# Altium integrated library Renesas Logic.IntLib: 1013 symbols (part 22 of 27)
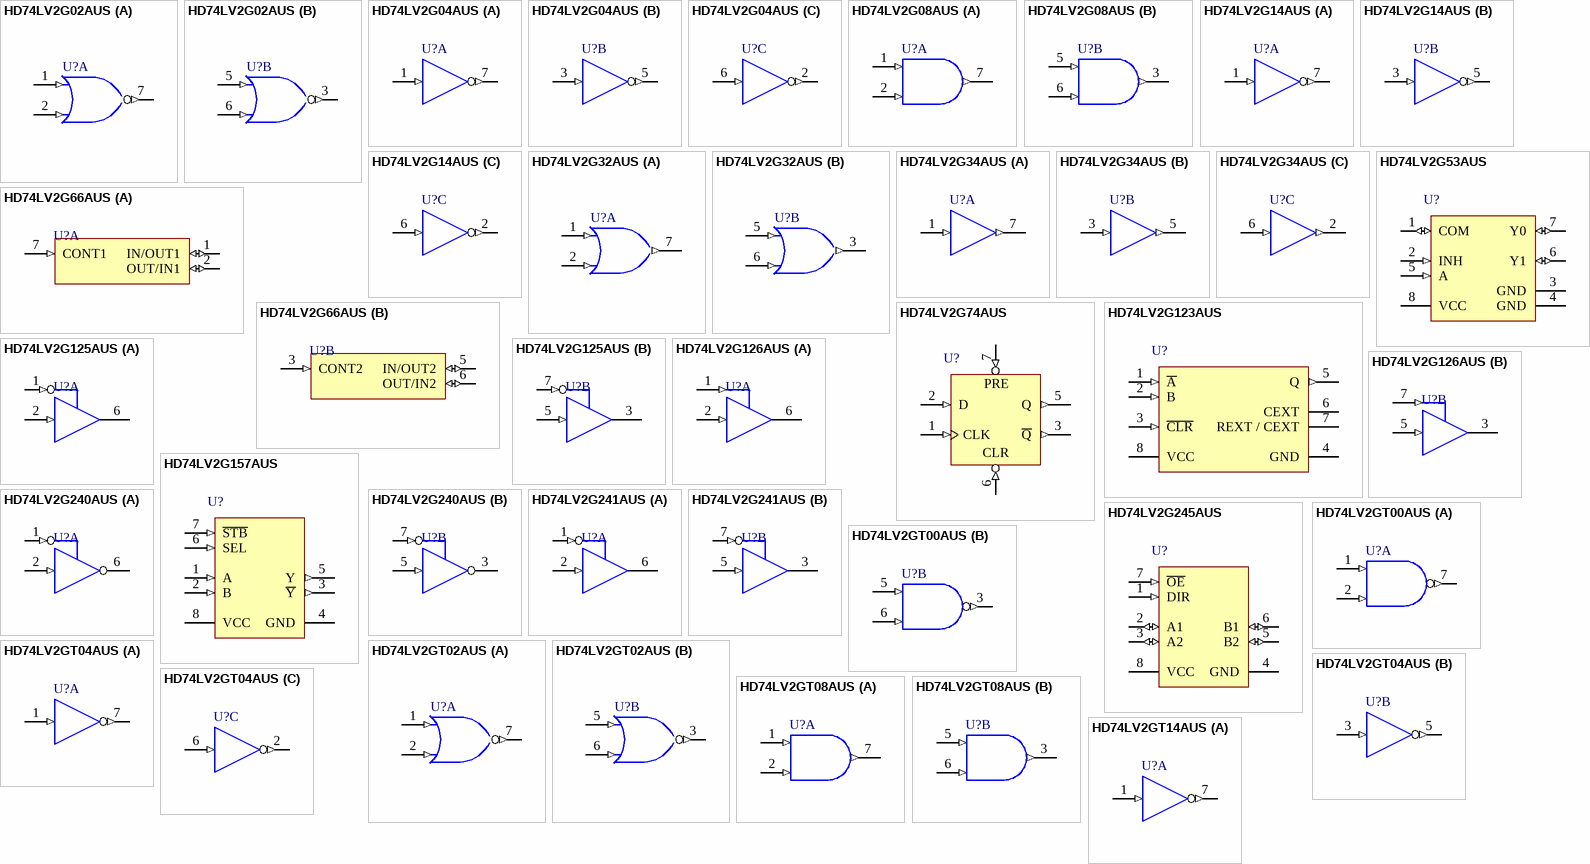
[diagram p74: symbols HD74LV2G02AUS to HD74LV2GT14AUS]

## HD74LV2G34AUS
designator U?
Triple Non-inverters; Published: 10-Feb-2010; DatasheetVersion: Rev.4.00, Sep-2003; PackageVersion: Sep-2005; PackageReference: PVSP0008KA-A; Publisher: Altium Limited; PackageDescription: 8-Pin Plastic Thin Shrink Small Outline Package 0.5 mm Pitch; Code_JEITA: P-VSSOP8-2.3x2-0.50; ComponentLink1Description: Manufacturer Link; ComponentLink1URL: http://sg.renesas.com/fmwk.jsp?cnt=unilogic_lva_lvta_root.jsp&fp=/products/standard_ic/general_purpose_logic/uni_logic/unilogic_lva_lvta/; ComponentLink2Description: Datasheet; ComponentLink2URL: http://documentation.renesas.com/eng/products/logic/rej03d0093_hd74lv2g34a.pdf; ComponentLink3Description: Packaging Specification; ComponentLink3URL: http://sg.renesas.com/media/products/common_info/package/pdf/ic/code/pvsp0008ka_a.pdf
footprint PVSP0008KA-A_N (TSSOP, 8-Leads, Body 2x2.3mm, Pitch 0.5mm, IPC Medium Density)
footprint PVSP0008KA-A_L (TSSOP, 8-Leads, Body 2x2.3mm, Pitch 0.5mm, IPC High Density)
footprint PVSP0008KA-A_M (TSSOP, 8-Leads, Body 2x2.3mm, Pitch 0.5mm, IPC Low Density)
pins on every part: 4 GND (power) hidden, 8 VCC (power) hidden
part A pins: 1 1A (in), 7 1Y (out)
part B pins: 3 2A (in), 5 2Y (out)
part C pins: 2 3Y (out), 6 3A (in)

## HD74LV2G53AUS
designator U?
2-Channel Analog Multiplexer / Demultiplexer; Published: 10-Feb-2010; DatasheetVersion: Rev.4.00, Sep-2003; PackageVersion: Sep-2005; PackageReference: PVSP0008KA-A; Publisher: Altium Limited; PackageDescription: 8-Pin Plastic Thin Shrink Small Outline Package 0.5 mm Pitch; Code_JEITA: P-VSSOP8-2.3x2-0.50; ComponentLink1Description: Manufacturer Link; ComponentLink1URL: http://sg.renesas.com/fmwk.jsp?cnt=unilogic_lva_lvta_root.jsp&fp=/products/standard_ic/general_purpose_logic/uni_logic/unilogic_lva_lvta/; ComponentLink2Description: Datasheet; ComponentLink2URL: http://documentation.renesas.com/eng/products/logic/rej03d0094_hd74lv2g53a.pdf; ComponentLink3Description: Packaging Specification; ComponentLink3URL: http://sg.renesas.com/media/products/common_info/package/pdf/ic/code/pvsp0008ka_a.pdf
footprint PVSP0008KA-A_N (TSSOP, 8-Leads, Body 2x2.3mm, Pitch 0.5mm, IPC Medium Density)
footprint PVSP0008KA-A_L (TSSOP, 8-Leads, Body 2x2.3mm, Pitch 0.5mm, IPC High Density)
footprint PVSP0008KA-A_M (TSSOP, 8-Leads, Body 2x2.3mm, Pitch 0.5mm, IPC Low Density)
pins: 1 COM (io), 2 INH (in), 3 GND (power), 4 GND (power), 5 A (in), 6 Y1 (io), 7 Y0 (io), 8 VCC (power)

## HD74LV2G66AUS
designator U?
2-Channel Analog Switch; Published: 10-Feb-2010; DatasheetVersion: Rev.4.00, Sep-2003; PackageVersion: Sep-2005; PackageReference: PVSP0008KA-A; Publisher: Altium Limited; PackageDescription: 8-Pin Plastic Thin Shrink Small Outline Package 0.5 mm Pitch; Code_JEITA: P-VSSOP8-2.3x2-0.50; ComponentLink1Description: Manufacturer Link; ComponentLink1URL: http://sg.renesas.com/fmwk.jsp?cnt=unilogic_lva_lvta_root.jsp&fp=/products/standard_ic/general_purpose_logic/uni_logic/unilogic_lva_lvta/; ComponentLink2Description: Datasheet; ComponentLink2URL: http://documentation.renesas.com/eng/products/logic/rej03d0095_hd74lv2g66a.pdf; ComponentLink3Description: Packaging Specification; ComponentLink3URL: http://sg.renesas.com/media/products/common_info/package/pdf/ic/code/pvsp0008ka_a.pdf
footprint PVSP0008KA-A_N (TSSOP, 8-Leads, Body 2x2.3mm, Pitch 0.5mm, IPC Medium Density)
footprint PVSP0008KA-A_L (TSSOP, 8-Leads, Body 2x2.3mm, Pitch 0.5mm, IPC High Density)
footprint PVSP0008KA-A_M (TSSOP, 8-Leads, Body 2x2.3mm, Pitch 0.5mm, IPC Low Density)
pins on every part: 4 GND (power) hidden, 8 VCC (power) hidden
part A pins: 1 IN/OUT1 (io), 2 OUT/IN1 (io), 7 CONT1 (in)
part B pins: 3 CONT2 (in), 5 IN/OUT2 (io), 6 OUT/IN2 (io)

## HD74LV2G74AUS
designator U?
Single D-ype Flip-Flops with Preset and Clear; Published: 10-Feb-2010; DatasheetVersion: Rev.5.00, Apr-2006; PackageVersion: Sep-2005; PackageReference: PVSP0008KA-A; Publisher: Altium Limited; PackageDescription: 8-Pin Plastic Thin Shrink Small Outline Package 0.5 mm Pitch; Code_JEITA: P-VSSOP8-2.3x2-0.50; ComponentLink1Description: Manufacturer Link; ComponentLink1URL: http://sg.renesas.com/fmwk.jsp?cnt=unilogic_lva_lvta_root.jsp&fp=/products/standard_ic/general_purpose_logic/uni_logic/unilogic_lva_lvta/; ComponentLink2Description: Datasheet; ComponentLink2URL: http://documentation.renesas.com/eng/products/logic/rej03d0097_hd74lv2g74ads.pdf; ComponentLink3Description: Packaging Specification; ComponentLink3URL: http://sg.renesas.com/media/products/common_info/package/pdf/ic/code/pvsp0008ka_a.pdf
footprint PVSP0008KA-A_N (TSSOP, 8-Leads, Body 2x2.3mm, Pitch 0.5mm, IPC Medium Density)
footprint PVSP0008KA-A_L (TSSOP, 8-Leads, Body 2x2.3mm, Pitch 0.5mm, IPC High Density)
footprint PVSP0008KA-A_M (TSSOP, 8-Leads, Body 2x2.3mm, Pitch 0.5mm, IPC Low Density)
pins: 1 CLK (in), 2 D (in), 3 ~{Q} (out), 4 GND (power) hidden, 5 Q (out), 6 ~{CLR} (in), 7 ~{PRE} (in), 8 VCC (power) hidden
text: PRE; CLR

## HD74LV2G123AUS
designator U?
Retriggerable Monostable Multivibrator; Published: 10-Feb-2010; DatasheetVersion: Rev.3.00, Sep-2003; PackageVersion: Sep-2005; PackageReference: PVSP0008KA-A; Publisher: Altium Limited; PackageDescription: 8-Pin Plastic Thin Shrink Small Outline Package 0.5 mm Pitch; Code_JEITA: P-VSSOP8-2.3x2-0.50; ComponentLink1Description: Manufacturer Link; ComponentLink1URL: http://sg.renesas.com/fmwk.jsp?cnt=unilogic_lva_lvta_root.jsp&fp=/products/standard_ic/general_purpose_logic/uni_logic/unilogic_lva_lvta/; ComponentLink2Description: Datasheet; ComponentLink2URL: http://documentation.renesas.com/eng/products/logic/rej03d0098_hd74lv2g123a.pdf; ComponentLink3Description: Packaging Specification; ComponentLink3URL: http://sg.renesas.com/media/products/common_info/package/pdf/ic/code/pvsp0008ka_a.pdf
footprint PVSP0008KA-A_N (TSSOP, 8-Leads, Body 2x2.3mm, Pitch 0.5mm, IPC Medium Density)
footprint PVSP0008KA-A_L (TSSOP, 8-Leads, Body 2x2.3mm, Pitch 0.5mm, IPC High Density)
footprint PVSP0008KA-A_M (TSSOP, 8-Leads, Body 2x2.3mm, Pitch 0.5mm, IPC Low Density)
pins: 1 ~{A} (in), 2 B (in), 3 ~{CLR} (in), 4 GND (power), 5 Q (out), 6 CEXT, 7 REXT / CEXT, 8 VCC (power)

## HD74LV2G125AUS
designator U?
Dual Bus Buffer with 3-State Output; Published: 10-Feb-2010; DatasheetVersion: Rev.5.00, Sep-2003; PackageVersion: Sep-2005; PackageReference: PVSP0008KA-A; Publisher: Altium Limited; PackageDescription: 8-Pin Plastic Thin Shrink Small Outline Package 0.5 mm Pitch; Code_JEITA: P-VSSOP8-2.3x2-0.50; ComponentLink1Description: Manufacturer Link; ComponentLink1URL: http://sg.renesas.com/fmwk.jsp?cnt=unilogic_lva_lvta_root.jsp&fp=/products/standard_ic/general_purpose_logic/uni_logic/unilogic_lva_lvta/; ComponentLink2Description: Datasheet; ComponentLink2URL: http://documentation.renesas.com/eng/products/logic/rej03d0099_hd74lv2g125a.pdf; ComponentLink3Description: Packaging Specification; ComponentLink3URL: http://sg.renesas.com/media/products/common_info/package/pdf/ic/code/pvsp0008ka_a.pdf
footprint PVSP0008KA-A_N (TSSOP, 8-Leads, Body 2x2.3mm, Pitch 0.5mm, IPC Medium Density)
footprint PVSP0008KA-A_L (TSSOP, 8-Leads, Body 2x2.3mm, Pitch 0.5mm, IPC High Density)
footprint PVSP0008KA-A_M (TSSOP, 8-Leads, Body 2x2.3mm, Pitch 0.5mm, IPC Low Density)
pins on every part: 4 GND (power) hidden, 8 VCC (power) hidden
part A pins: 1 ~{OE}1 (in), 2 A1 (in), 6 Y1 (hiz)
part B pins: 3 Y2 (hiz), 5 A2 (in), 7 ~{OE}2 (in)

## HD74LV2G126AUS
designator U?
Dual Bus Buffer with 3-State Output; Published: 10-Feb-2010; DatasheetVersion: Rev.5.00, Sep-2003; PackageVersion: Sep-2005; PackageReference: PVSP0008KA-A; Publisher: Altium Limited; PackageDescription: 8-Pin Plastic Thin Shrink Small Outline Package 0.5 mm Pitch; Code_JEITA: P-VSSOP8-2.3x2-0.50; ComponentLink1Description: Manufacturer Link; ComponentLink1URL: http://sg.renesas.com/fmwk.jsp?cnt=unilogic_lva_lvta_root.jsp&fp=/products/standard_ic/general_purpose_logic/uni_logic/unilogic_lva_lvta/; ComponentLink2Description: Datasheet; ComponentLink2URL: http://documentation.renesas.com/eng/products/logic/rej03d0100_hd74lv2g126a.pdf; ComponentLink3Description: Packaging Specification; ComponentLink3URL: http://sg.renesas.com/media/products/common_info/package/pdf/ic/code/pvsp0008ka_a.pdf
footprint PVSP0008KA-A_N (TSSOP, 8-Leads, Body 2x2.3mm, Pitch 0.5mm, IPC Medium Density)
footprint PVSP0008KA-A_L (TSSOP, 8-Leads, Body 2x2.3mm, Pitch 0.5mm, IPC High Density)
footprint PVSP0008KA-A_M (TSSOP, 8-Leads, Body 2x2.3mm, Pitch 0.5mm, IPC Low Density)
pins on every part: 4 GND (power) hidden, 8 VCC (power) hidden
part A pins: 1 OE1 (in), 2 A1 (in), 6 Y1 (hiz)
part B pins: 3 Y2 (hiz), 5 A2 (in), 7 OE2 (in)

## HD74LV2G157AUS
designator U?
2-Channel Multiplexer; Published: 10-Feb-2010; DatasheetVersion: Rev.4.00, Sep-2003; PackageVersion: Sep-2005; PackageReference: PVSP0008KA-A; Publisher: Altium Limited; PackageDescription: 8-Pin Plastic Thin Shrink Small Outline Package 0.5 mm Pitch; Code_JEITA: P-VSSOP8-2.3x2-0.50; ComponentLink1Description: Manufacturer Link; ComponentLink1URL: http://sg.renesas.com/fmwk.jsp?cnt=unilogic_lva_lvta_root.jsp&fp=/products/standard_ic/general_purpose_logic/uni_logic/unilogic_lva_lvta/; ComponentLink2Description: Datasheet; ComponentLink2URL: http://documentation.renesas.com/eng/products/logic/rej03d0101_hd74lv2g157a.pdf; ComponentLink3Description: Packaging Specification; ComponentLink3URL: http://sg.renesas.com/media/products/common_info/package/pdf/ic/code/pvsp0008ka_a.pdf
footprint PVSP0008KA-A_N (TSSOP, 8-Leads, Body 2x2.3mm, Pitch 0.5mm, IPC Medium Density)
footprint PVSP0008KA-A_L (TSSOP, 8-Leads, Body 2x2.3mm, Pitch 0.5mm, IPC High Density)
footprint PVSP0008KA-A_M (TSSOP, 8-Leads, Body 2x2.3mm, Pitch 0.5mm, IPC Low Density)
pins: 1 A (in), 2 B (in), 3 ~{Y} (out), 4 GND (power), 5 Y (out), 6 SEL (in), 7 ~{STB} (in), 8 VCC (power)

## HD74LV2G240AUS
designator U?
Dual Bus Buffer Inverted with 3-State Outputs; Published: 10-Feb-2010; DatasheetVersion: Rev.4.00, Sep-2003; PackageVersion: Sep-2005; PackageReference: PVSP0008KA-A; Publisher: Altium Limited; PackageDescription: 8-Pin Plastic Thin Shrink Small Outline Package 0.5 mm Pitch; Code_JEITA: P-VSSOP8-2.3x2-0.50; ComponentLink1Description: Manufacturer Link; ComponentLink1URL: http://sg.renesas.com/fmwk.jsp?cnt=unilogic_lva_lvta_root.jsp&fp=/products/standard_ic/general_purpose_logic/uni_logic/unilogic_lva_lvta/; ComponentLink2Description: Datasheet; ComponentLink2URL: http://documentation.renesas.com/eng/products/logic/rej03d0102_hd74lv2g240a.pdf; ComponentLink3Description: Packaging Specification; ComponentLink3URL: http://sg.renesas.com/media/products/common_info/package/pdf/ic/code/pvsp0008ka_a.pdf
footprint PVSP0008KA-A_N (TSSOP, 8-Leads, Body 2x2.3mm, Pitch 0.5mm, IPC Medium Density)
footprint PVSP0008KA-A_L (TSSOP, 8-Leads, Body 2x2.3mm, Pitch 0.5mm, IPC High Density)
footprint PVSP0008KA-A_M (TSSOP, 8-Leads, Body 2x2.3mm, Pitch 0.5mm, IPC Low Density)
pins on every part: 4 GND (power) hidden, 8 VCC (power) hidden
part A pins: 1 ~{OE}1 (in), 2 A1 (in), 6 ~{Y}1 (hiz)
part B pins: 3 ~{Y}2 (hiz), 5 A2 (in), 7 ~{OE}2 (in)

## HD74LV2G241AUS
designator U?
Dual Bus Buffer Non-Inverted with 3-State Outputs; Published: 10-Feb-2010; DatasheetVersion: Rev.5.00, Sep-2003; PackageVersion: Sep-2005; PackageReference: PVSP0008KA-A; Publisher: Altium Limited; PackageDescription: 8-Pin Plastic Thin Shrink Small Outline Package 0.5 mm Pitch; Code_JEITA: P-VSSOP8-2.3x2-0.50; ComponentLink1Description: Manufacturer Link; ComponentLink1URL: http://sg.renesas.com/fmwk.jsp?cnt=unilogic_lva_lvta_root.jsp&fp=/products/standard_ic/general_purpose_logic/uni_logic/unilogic_lva_lvta/; ComponentLink2Description: Datasheet; ComponentLink2URL: http://documentation.renesas.com/eng/products/logic/rej03d0103_hd74lv2g241a.pdf; ComponentLink3Description: Packaging Specification; ComponentLink3URL: http://sg.renesas.com/media/products/common_info/package/pdf/ic/code/pvsp0008ka_a.pdf
footprint PVSP0008KA-A_N (TSSOP, 8-Leads, Body 2x2.3mm, Pitch 0.5mm, IPC Medium Density)
footprint PVSP0008KA-A_L (TSSOP, 8-Leads, Body 2x2.3mm, Pitch 0.5mm, IPC High Density)
footprint PVSP0008KA-A_M (TSSOP, 8-Leads, Body 2x2.3mm, Pitch 0.5mm, IPC Low Density)
pins on every part: 4 GND (power) hidden, 8 VCC (power) hidden
part A pins: 1 ~{OE}1 (in), 2 A1 (in), 6 Y1 (hiz)
part B pins: 3 Y2 (hiz), 5 A2 (in), 7 ~{OE}2 (in)

## HD74LV2G245AUS
designator U?
Dual Bus Transceivers with 3-State Outputs; Published: 10-Feb-2010; DatasheetVersion: Rev.4.00, Oct-2003; PackageVersion: Sep-2005; PackageReference: PVSP0008KA-A; Publisher: Altium Limited; PackageDescription: 8-Pin Plastic Thin Shrink Small Outline Package 0.5 mm Pitch; Code_JEITA: P-VSSOP8-2.3x2-0.50; ComponentLink1Description: Manufacturer Link; ComponentLink1URL: http://sg.renesas.com/fmwk.jsp?cnt=unilogic_lva_lvta_root.jsp&fp=/products/standard_ic/general_purpose_logic/uni_logic/unilogic_lva_lvta/; ComponentLink2Description: Datasheet; ComponentLink2URL: http://documentation.renesas.com/eng/products/logic/rej03d0104_hd74lv2g245a.pdf; ComponentLink3Description: Packaging Specification; ComponentLink3URL: http://sg.renesas.com/media/products/common_info/package/pdf/ic/code/pvsp0008ka_a.pdf
footprint PVSP0008KA-A_N (TSSOP, 8-Leads, Body 2x2.3mm, Pitch 0.5mm, IPC Medium Density)
footprint PVSP0008KA-A_L (TSSOP, 8-Leads, Body 2x2.3mm, Pitch 0.5mm, IPC High Density)
footprint PVSP0008KA-A_M (TSSOP, 8-Leads, Body 2x2.3mm, Pitch 0.5mm, IPC Low Density)
pins: 1 DIR (in), 2 A1 (io), 3 A2 (io), 4 GND (power), 5 B2 (io), 6 B1 (io), 7 ~{OE} (in), 8 VCC (power)

## HD74LV2GT00AUS
designator U?
Dual 2-Input NAND Gates with CMOS Logic Level Shifter; Published: 10-Feb-2010; DatasheetVersion: Rev.2.00, Oct-2003; PackageVersion: Sep-2005; PackageReference: PVSP0008KA-A; Publisher: Altium Limited; PackageDescription: 8-Pin Plastic Thin Shrink Small Outline Package 0.5 mm Pitch; Code_JEITA: P-VSSOP8-2.3x2-0.50; ComponentLink1Description: Manufacturer Link; ComponentLink1URL: http://sg.renesas.com/fmwk.jsp?cnt=unilogic_lva_lvta_root.jsp&fp=/products/standard_ic/general_purpose_logic/uni_logic/unilogic_lva_lvta/; ComponentLink2Description: Datasheet; ComponentLink2URL: http://documentation.renesas.com/eng/products/logic/rej03d0137_hd74lv2gt00a.pdf; ComponentLink3Description: Packaging Specification; ComponentLink3URL: http://sg.renesas.com/media/products/common_info/package/pdf/ic/code/pvsp0008ka_a.pdf
footprint PVSP0008KA-A_N (TSSOP, 8-Leads, Body 2x2.3mm, Pitch 0.5mm, IPC Medium Density)
footprint PVSP0008KA-A_L (TSSOP, 8-Leads, Body 2x2.3mm, Pitch 0.5mm, IPC High Density)
footprint PVSP0008KA-A_M (TSSOP, 8-Leads, Body 2x2.3mm, Pitch 0.5mm, IPC Low Density)
pins on every part: 4 GND (power) hidden, 8 VCC (power) hidden
part A pins: 1 1A (in), 2 1B (in), 7 1Y (out)
part B pins: 3 2Y (out), 5 2A (in), 6 2B (in)

## HD74LV2GT02AUS
designator U?
Dual 2-Input NOR Gates with CMOS Logic Level Shifter; Published: 10-Feb-2010; DatasheetVersion: Rev.2.00, Oct-2003; PackageVersion: Sep-2005; PackageReference: PVSP0008KA-A; Publisher: Altium Limited; PackageDescription: 8-Pin Plastic Thin Shrink Small Outline Package 0.5 mm Pitch; Code_JEITA: P-VSSOP8-2.3x2-0.50; ComponentLink1Description: Manufacturer Link; ComponentLink1URL: http://sg.renesas.com/fmwk.jsp?cnt=unilogic_lva_lvta_root.jsp&fp=/products/standard_ic/general_purpose_logic/uni_logic/unilogic_lva_lvta/; ComponentLink2Description: Datasheet; ComponentLink2URL: http://documentation.renesas.com/eng/products/logic/rej03d0138_hd74lv2gt02a.pdf; ComponentLink3Description: Packaging Specification; ComponentLink3URL: http://sg.renesas.com/media/products/common_info/package/pdf/ic/code/pvsp0008ka_a.pdf
footprint PVSP0008KA-A_N (TSSOP, 8-Leads, Body 2x2.3mm, Pitch 0.5mm, IPC Medium Density)
footprint PVSP0008KA-A_L (TSSOP, 8-Leads, Body 2x2.3mm, Pitch 0.5mm, IPC High Density)
footprint PVSP0008KA-A_M (TSSOP, 8-Leads, Body 2x2.3mm, Pitch 0.5mm, IPC Low Density)
pins on every part: 4 GND (power) hidden, 8 VCC (power) hidden
part A pins: 1 1A (in), 2 1B (in), 7 1Y (out)
part B pins: 3 2Y (out), 5 2A (in), 6 2B (in)

## HD74LV2GT04AUS
designator U?
Triple Inverters with CMOS Logic Level Shifter; Published: 10-Feb-2010; DatasheetVersion: Rev.2.00, Oct-2003; PackageVersion: Sep-2005; PackageReference: PVSP0008KA-A; Publisher: Altium Limited; PackageDescription: 8-Pin Plastic Thin Shrink Small Outline Package 0.5 mm Pitch; Code_JEITA: P-VSSOP8-2.3x2-0.50; ComponentLink1Description: Manufacturer Link; ComponentLink1URL: http://sg.renesas.com/fmwk.jsp?cnt=unilogic_lva_lvta_root.jsp&fp=/products/standard_ic/general_purpose_logic/uni_logic/unilogic_lva_lvta/; ComponentLink2Description: Datasheet; ComponentLink2URL: http://documentation.renesas.com/eng/products/logic/rej03d0139_hd74lv2gt04a.pdf; ComponentLink3Description: Packaging Specification; ComponentLink3URL: http://sg.renesas.com/media/products/common_info/package/pdf/ic/code/pvsp0008ka_a.pdf
footprint PVSP0008KA-A_N (TSSOP, 8-Leads, Body 2x2.3mm, Pitch 0.5mm, IPC Medium Density)
footprint PVSP0008KA-A_L (TSSOP, 8-Leads, Body 2x2.3mm, Pitch 0.5mm, IPC High Density)
footprint PVSP0008KA-A_M (TSSOP, 8-Leads, Body 2x2.3mm, Pitch 0.5mm, IPC Low Density)
pins on every part: 4 GND (power) hidden, 8 VCC (power) hidden
part A pins: 1 1A (in), 7 1~{Y} (out)
part B pins: 3 2A (in), 5 2~{Y} (out)
part C pins: 2 3~{Y} (out), 6 3A (in)

## HD74LV2GT08AUS
designator U?
Dual 2-Input AND Gates with CMOS Logic Level Shifter; Published: 10-Feb-2010; DatasheetVersion: Rev.2.00, Oct-2003; PackageVersion: Sep-2005; PackageReference: PVSP0008KA-A; Publisher: Altium Limited; PackageDescription: 8-Pin Plastic Thin Shrink Small Outline Package 0.5 mm Pitch; Code_JEITA: P-VSSOP8-2.3x2-0.50; ComponentLink1Description: Manufacturer Link; ComponentLink1URL: http://sg.renesas.com/fmwk.jsp?cnt=unilogic_lva_lvta_root.jsp&fp=/products/standard_ic/general_purpose_logic/uni_logic/unilogic_lva_lvta/; ComponentLink2Description: Datasheet; ComponentLink2URL: http://documentation.renesas.com/eng/products/logic/rej03d0140_hd74lv2gt08a.pdf; ComponentLink3Description: Packaging Specification; ComponentLink3URL: http://sg.renesas.com/media/products/common_info/package/pdf/ic/code/pvsp0008ka_a.pdf
footprint PVSP0008KA-A_N (TSSOP, 8-Leads, Body 2x2.3mm, Pitch 0.5mm, IPC Medium Density)
footprint PVSP0008KA-A_L (TSSOP, 8-Leads, Body 2x2.3mm, Pitch 0.5mm, IPC High Density)
footprint PVSP0008KA-A_M (TSSOP, 8-Leads, Body 2x2.3mm, Pitch 0.5mm, IPC Low Density)
pins on every part: 4 GND (power) hidden, 8 VCC (power) hidden
part A pins: 1 1A (in), 2 1B (in), 7 1Y (out)
part B pins: 3 2Y (out), 5 2A (in), 6 2B (in)

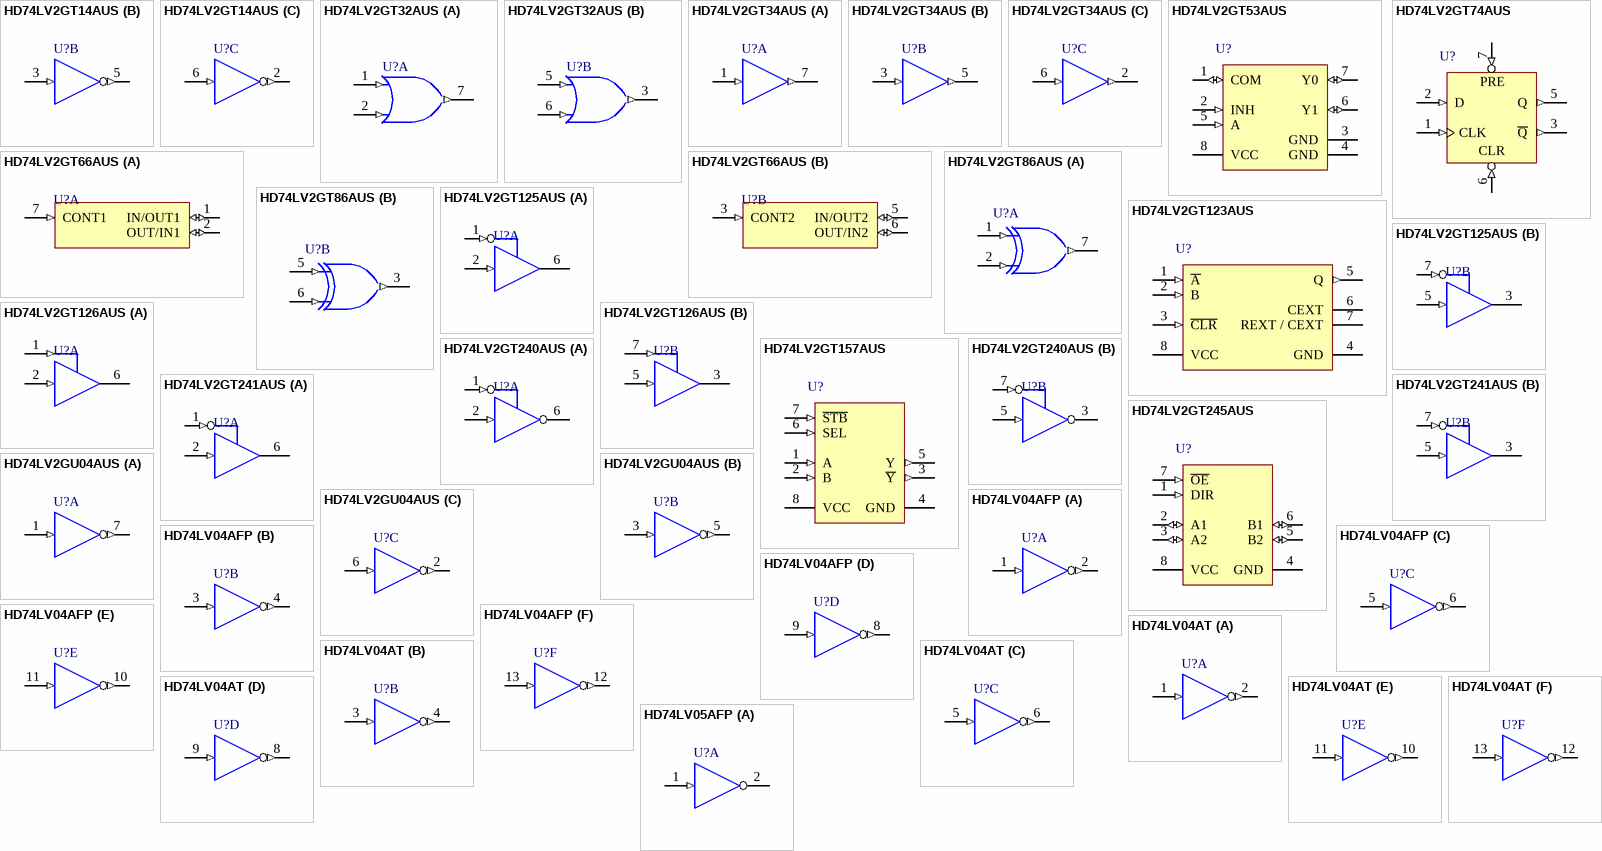
[diagram p41: symbols HD74LV2GT14AUS to HD74LV05AFP]

## HD74LV2GT14AUS
designator U?
Triple Inverters with Schmitt Trigger Inputs and CMOS Logic Level Shifter; Published: 10-Feb-2010; DatasheetVersion: Rev.2.00, Oct-2003; PackageVersion: Sep-2005; PackageReference: PVSP0008KA-A; Publisher: Altium Limited; PackageDescription: 8-Pin Plastic Thin Shrink Small Outline Package 0.5 mm Pitch; Code_JEITA: P-VSSOP8-2.3x2-0.50; ComponentLink1Description: Manufacturer Link; ComponentLink1URL: http://sg.renesas.com/fmwk.jsp?cnt=unilogic_lva_lvta_root.jsp&fp=/products/standard_ic/general_purpose_logic/uni_logic/unilogic_lva_lvta/; ComponentLink2Description: Datasheet; ComponentLink2URL: http://documentation.renesas.com/eng/products/logic/rej03d0141_hd74lv2gt14a.pdf; ComponentLink3Description: Packaging Specification; ComponentLink3URL: http://sg.renesas.com/media/products/common_info/package/pdf/ic/code/pvsp0008ka_a.pdf
footprint PVSP0008KA-A_N (TSSOP, 8-Leads, Body 2x2.3mm, Pitch 0.5mm, IPC Medium Density)
footprint PVSP0008KA-A_L (TSSOP, 8-Leads, Body 2x2.3mm, Pitch 0.5mm, IPC High Density)
footprint PVSP0008KA-A_M (TSSOP, 8-Leads, Body 2x2.3mm, Pitch 0.5mm, IPC Low Density)
pins on every part: 4 GND (power) hidden, 8 VCC (power) hidden
part A pins: 1 1A (in), 7 1~{Y} (out)
part B pins: 3 2A (in), 5 2~{Y} (out)
part C pins: 2 3~{Y} (out), 6 3A (in)

## HD74LV2GT32AUS
designator U?
Dual 2-Input OR Gates with CMOS Logic Level Shifter; Published: 10-Feb-2010; DatasheetVersion: Rev.2.00, Oct-2003; PackageVersion: Sep-2005; PackageReference: PVSP0008KA-A; Publisher: Altium Limited; PackageDescription: 8-Pin Plastic Thin Shrink Small Outline Package 0.5 mm Pitch; Code_JEITA: P-VSSOP8-2.3x2-0.50; ComponentLink1Description: Manufacturer Link; ComponentLink1URL: http://sg.renesas.com/fmwk.jsp?cnt=unilogic_lva_lvta_root.jsp&fp=/products/standard_ic/general_purpose_logic/uni_logic/unilogic_lva_lvta/; ComponentLink2Description: Datasheet; ComponentLink2URL: http://documentation.renesas.com/eng/products/logic/rej03d0142_hd74lv2gt32a.pdf; ComponentLink3Description: Packaging Specification; ComponentLink3URL: http://sg.renesas.com/media/products/common_info/package/pdf/ic/code/pvsp0008ka_a.pdf
footprint PVSP0008KA-A_N (TSSOP, 8-Leads, Body 2x2.3mm, Pitch 0.5mm, IPC Medium Density)
footprint PVSP0008KA-A_L (TSSOP, 8-Leads, Body 2x2.3mm, Pitch 0.5mm, IPC High Density)
footprint PVSP0008KA-A_M (TSSOP, 8-Leads, Body 2x2.3mm, Pitch 0.5mm, IPC Low Density)
pins on every part: 4 GND (power) hidden, 8 VCC (power) hidden
part A pins: 1 1A (in), 2 1B (in), 7 1Y (out)
part B pins: 3 2Y (out), 5 2A (in), 6 2B (in)

## HD74LV2GT34AUS
designator U?
Triple Non-inverters with CMOS Logic Level Shifter; Published: 10-Feb-2010; DatasheetVersion: Rev.2.00, Oct-2003; PackageVersion: Sep-2005; PackageReference: PVSP0008KA-A; Publisher: Altium Limited; PackageDescription: 8-Pin Plastic Thin Shrink Small Outline Package 0.5 mm Pitch; Code_JEITA: P-VSSOP8-2.3x2-0.50; ComponentLink1Description: Manufacturer Link; ComponentLink1URL: http://sg.renesas.com/fmwk.jsp?cnt=unilogic_lva_lvta_root.jsp&fp=/products/standard_ic/general_purpose_logic/uni_logic/unilogic_lva_lvta/; ComponentLink2Description: Datasheet; ComponentLink2URL: http://documentation.renesas.com/eng/products/logic/rej03d0143_hd74lv2gt34a.pdf; ComponentLink3Description: Packaging Specification; ComponentLink3URL: http://sg.renesas.com/media/products/common_info/package/pdf/ic/code/pvsp0008ka_a.pdf
footprint PVSP0008KA-A_N (TSSOP, 8-Leads, Body 2x2.3mm, Pitch 0.5mm, IPC Medium Density)
footprint PVSP0008KA-A_L (TSSOP, 8-Leads, Body 2x2.3mm, Pitch 0.5mm, IPC High Density)
footprint PVSP0008KA-A_M (TSSOP, 8-Leads, Body 2x2.3mm, Pitch 0.5mm, IPC Low Density)
pins on every part: 4 GND (power) hidden, 8 VCC (power) hidden
part A pins: 1 1A (in), 7 1Y (out)
part B pins: 3 2A (in), 5 2Y (out)
part C pins: 2 3Y (out), 6 3A (in)

## HD74LV2GT53AUS
designator U?
2-Channel Analog Multiplexer / Demultiplexer; Published: 10-Feb-2010; DatasheetVersion: Rev.2.00, Oct-2003; PackageVersion: Sep-2005; PackageReference: PVSP0008KA-A; Publisher: Altium Limited; PackageDescription: 8-Pin Plastic Thin Shrink Small Outline Package 0.5 mm Pitch; Code_JEITA: P-VSSOP8-2.3x2-0.50; ComponentLink1Description: Manufacturer Link; ComponentLink1URL: http://sg.renesas.com/fmwk.jsp?cnt=unilogic_lva_lvta_root.jsp&fp=/products/standard_ic/general_purpose_logic/uni_logic/unilogic_lva_lvta/; ComponentLink2Description: Datasheet; ComponentLink2URL: http://documentation.renesas.com/eng/products/logic/rej03d0144_hd74lv2gt53a.pdf; ComponentLink3Description: Packaging Specification; ComponentLink3URL: http://sg.renesas.com/media/products/common_info/package/pdf/ic/code/pvsp0008ka_a.pdf
footprint PVSP0008KA-A_N (TSSOP, 8-Leads, Body 2x2.3mm, Pitch 0.5mm, IPC Medium Density)
footprint PVSP0008KA-A_L (TSSOP, 8-Leads, Body 2x2.3mm, Pitch 0.5mm, IPC High Density)
footprint PVSP0008KA-A_M (TSSOP, 8-Leads, Body 2x2.3mm, Pitch 0.5mm, IPC Low Density)
pins: 1 COM (io), 2 INH (in), 3 GND (power), 4 GND (power), 5 A (in), 6 Y1 (io), 7 Y0 (io), 8 VCC (power)

## HD74LV2GT66AUS
designator U?
2-Channel Analog Switch; Published: 10-Feb-2010; DatasheetVersion: Rev.2.00, Oct-2003; PackageVersion: Sep-2005; PackageReference: PVSP0008KA-A; Publisher: Altium Limited; PackageDescription: 8-Pin Plastic Thin Shrink Small Outline Package 0.5 mm Pitch; Code_JEITA: P-VSSOP8-2.3x2-0.50; ComponentLink1Description: Manufacturer Link; ComponentLink1URL: http://sg.renesas.com/fmwk.jsp?cnt=unilogic_lva_lvta_root.jsp&fp=/products/standard_ic/general_purpose_logic/uni_logic/unilogic_lva_lvta/; ComponentLink2Description: Datasheet; ComponentLink2URL: http://documentation.renesas.com/eng/products/logic/rej03d0145_hd74lv2gt66a.pdf; ComponentLink3Description: Packaging Specification; ComponentLink3URL: http://sg.renesas.com/media/products/common_info/package/pdf/ic/code/pvsp0008ka_a.pdf
footprint PVSP0008KA-A_N (TSSOP, 8-Leads, Body 2x2.3mm, Pitch 0.5mm, IPC Medium Density)
footprint PVSP0008KA-A_L (TSSOP, 8-Leads, Body 2x2.3mm, Pitch 0.5mm, IPC High Density)
footprint PVSP0008KA-A_M (TSSOP, 8-Leads, Body 2x2.3mm, Pitch 0.5mm, IPC Low Density)
pins on every part: 4 GND (power) hidden, 8 VCC (power) hidden
part A pins: 1 IN/OUT1 (io), 2 OUT/IN1 (io), 7 CONT1 (in)
part B pins: 3 CONT2 (in), 5 IN/OUT2 (io), 6 OUT/IN2 (io)

## HD74LV2GT74AUS
designator U?
Single D-Type Flip-Flops with Preset, Clear and CMOS Logic Level Shifter; Published: 10-Feb-2010; DatasheetVersion: Rev.2.00, Oct-2003; PackageVersion: Sep-2005; PackageReference: PVSP0008KA-A; Publisher: Altium Limited; PackageDescription: 8-Pin Plastic Thin Shrink Small Outline Package 0.5 mm Pitch; Code_JEITA: P-VSSOP8-2.3x2-0.50; ComponentLink1Description: Manufacturer Link; ComponentLink1URL: http://sg.renesas.com/fmwk.jsp?cnt=unilogic_lva_lvta_root.jsp&fp=/products/standard_ic/general_purpose_logic/uni_logic/unilogic_lva_lvta/; ComponentLink2Description: Datasheet; ComponentLink2URL: http://documentation.renesas.com/eng/products/logic/rej03d0146_hd74lv2gt74a.pdf; ComponentLink3Description: Packaging Specification; ComponentLink3URL: http://sg.renesas.com/media/products/common_info/package/pdf/ic/code/pvsp0008ka_a.pdf
footprint PVSP0008KA-A_N (TSSOP, 8-Leads, Body 2x2.3mm, Pitch 0.5mm, IPC Medium Density)
footprint PVSP0008KA-A_L (TSSOP, 8-Leads, Body 2x2.3mm, Pitch 0.5mm, IPC High Density)
footprint PVSP0008KA-A_M (TSSOP, 8-Leads, Body 2x2.3mm, Pitch 0.5mm, IPC Low Density)
pins: 1 CLK (in), 2 D (in), 3 ~{Q} (out), 4 GND (power) hidden, 5 Q (out), 6 ~{CLR} (in), 7 ~{PRE} (in), 8 VCC (power) hidden
text: PRE; CLR

## HD74LV2GT86AUS
designator U?
2-Input Exclusive-OR Gate with CMOS Logic Level Shifter; Published: 10-Feb-2010; DatasheetVersion: Rev.2.00, Oct-2003; PackageVersion: Sep-2005; PackageReference: PVSP0008KA-A; Publisher: Altium Limited; PackageDescription: 8-Pin Plastic Thin Shrink Small Outline Package 0.5 mm Pitch; Code_JEITA: P-VSSOP8-2.3x2-0.50; ComponentLink1Description: Manufacturer Link; ComponentLink1URL: http://sg.renesas.com/fmwk.jsp?cnt=unilogic_lva_lvta_root.jsp&fp=/products/standard_ic/general_purpose_logic/uni_logic/unilogic_lva_lvta/; ComponentLink2Description: Datasheet; ComponentLink2URL: http://documentation.renesas.com/eng/products/logic/rej03d0147_hd74lv2gt86a.pdf; ComponentLink3Description: Packaging Specification; ComponentLink3URL: http://sg.renesas.com/media/products/common_info/package/pdf/ic/code/pvsp0008ka_a.pdf
footprint PVSP0008KA-A_N (TSSOP, 8-Leads, Body 2x2.3mm, Pitch 0.5mm, IPC Medium Density)
footprint PVSP0008KA-A_L (TSSOP, 8-Leads, Body 2x2.3mm, Pitch 0.5mm, IPC High Density)
footprint PVSP0008KA-A_M (TSSOP, 8-Leads, Body 2x2.3mm, Pitch 0.5mm, IPC Low Density)
pins on every part: 4 GND (power) hidden, 8 VCC (power) hidden
part A pins: 1 1A (in), 2 1B (in), 7 1Y (out)
part B pins: 3 2Y (out), 5 2A (in), 6 2B (in)

## HD74LV2GT123AUS
designator U?
Retriggerable Monostable Multivibrator with CMOS Logic Level Shifter; Published: 10-Feb-2010; DatasheetVersion: Rev.3.00, Oct-2003; PackageVersion: Sep-2005; PackageReference: PVSP0008KA-A; Publisher: Altium Limited; PackageDescription: 8-Pin Plastic Thin Shrink Small Outline Package 0.5 mm Pitch; Code_JEITA: P-VSSOP8-2.3x2-0.50; ComponentLink1Description: Manufacturer Link; ComponentLink1URL: http://sg.renesas.com/fmwk.jsp?cnt=unilogic_lva_lvta_root.jsp&fp=/products/standard_ic/general_purpose_logic/uni_logic/unilogic_lva_lvta/; ComponentLink2Description: Datasheet; ComponentLink2URL: http://documentation.renesas.com/eng/products/logic/rej03d0004_hd74lv2gt123a.pdf; ComponentLink3Description: Packaging Specification; ComponentLink3URL: http://sg.renesas.com/media/products/common_info/package/pdf/ic/code/pvsp0008ka_a.pdf
footprint PVSP0008KA-A_N (TSSOP, 8-Leads, Body 2x2.3mm, Pitch 0.5mm, IPC Medium Density)
footprint PVSP0008KA-A_L (TSSOP, 8-Leads, Body 2x2.3mm, Pitch 0.5mm, IPC High Density)
footprint PVSP0008KA-A_M (TSSOP, 8-Leads, Body 2x2.3mm, Pitch 0.5mm, IPC Low Density)
pins: 1 ~{A} (in), 2 B (in), 3 ~{CLR} (in), 4 GND (power), 5 Q (out), 6 CEXT, 7 REXT / CEXT, 8 VCC (power)

## HD74LV2GT125AUS
designator U?
Dual Bus Buffer with 3-State Output and CMOS Logic Level Shifter; Published: 10-Feb-2010; DatasheetVersion: Rev.2.00, Oct-2003; PackageVersion: Sep-2005; PackageReference: PVSP0008KA-A; Publisher: Altium Limited; PackageDescription: 8-Pin Plastic Thin Shrink Small Outline Package 0.5 mm Pitch; Code_JEITA: P-VSSOP8-2.3x2-0.50; ComponentLink1Description: Manufacturer Link; ComponentLink1URL: http://sg.renesas.com/fmwk.jsp?cnt=unilogic_lva_lvta_root.jsp&fp=/products/standard_ic/general_purpose_logic/uni_logic/unilogic_lva_lvta/; ComponentLink2Description: Datasheet; ComponentLink2URL: http://documentation.renesas.com/eng/products/logic/rej03d0148_hd74lv2gt125a.pdf; ComponentLink3Description: Packaging Specification; ComponentLink3URL: http://sg.renesas.com/media/products/common_info/package/pdf/ic/code/pvsp0008ka_a.pdf
footprint PVSP0008KA-A_N (TSSOP, 8-Leads, Body 2x2.3mm, Pitch 0.5mm, IPC Medium Density)
footprint PVSP0008KA-A_L (TSSOP, 8-Leads, Body 2x2.3mm, Pitch 0.5mm, IPC High Density)
footprint PVSP0008KA-A_M (TSSOP, 8-Leads, Body 2x2.3mm, Pitch 0.5mm, IPC Low Density)
pins on every part: 4 GND (power) hidden, 8 VCC (power) hidden
part A pins: 1 ~{OE}1 (in), 2 A1 (in), 6 Y1 (hiz)
part B pins: 3 Y2 (hiz), 5 A2 (in), 7 ~{OE}2 (in)

## HD74LV2GT126AUS
designator U?
Dual Bus Buffer with 3-State Output and CMOS Logic Level Shifter; Published: 10-Feb-2010; DatasheetVersion: Rev.2.00, Oct-2003; PackageVersion: Sep-2005; PackageReference: PVSP0008KA-A; Publisher: Altium Limited; PackageDescription: 8-Pin Plastic Thin Shrink Small Outline Package 0.5 mm Pitch; Code_JEITA: P-VSSOP8-2.3x2-0.50; ComponentLink1Description: Manufacturer Link; ComponentLink1URL: http://sg.renesas.com/fmwk.jsp?cnt=unilogic_lva_lvta_root.jsp&fp=/products/standard_ic/general_purpose_logic/uni_logic/unilogic_lva_lvta/; ComponentLink2Description: Datasheet; ComponentLink2URL: http://documentation.renesas.com/eng/products/logic/rej03d0149_hd74lv2gt126a.pdf; ComponentLink3Description: Packaging Specification; ComponentLink3URL: http://sg.renesas.com/media/products/common_info/package/pdf/ic/code/pvsp0008ka_a.pdf
footprint PVSP0008KA-A_N (TSSOP, 8-Leads, Body 2x2.3mm, Pitch 0.5mm, IPC Medium Density)
footprint PVSP0008KA-A_L (TSSOP, 8-Leads, Body 2x2.3mm, Pitch 0.5mm, IPC High Density)
footprint PVSP0008KA-A_M (TSSOP, 8-Leads, Body 2x2.3mm, Pitch 0.5mm, IPC Low Density)
pins on every part: 4 GND (power) hidden, 8 VCC (power) hidden
part A pins: 1 OE1 (in), 2 A1 (in), 6 Y1 (hiz)
part B pins: 3 Y2 (hiz), 5 A2 (in), 7 OE2 (in)

## HD74LV2GT157AUS
designator U?
2-Channel Multiplexer with CMOS Logic Level Shifter; Published: 10-Feb-2010; DatasheetVersion: Rev.2.00, Oct-2003; PackageVersion: Sep-2005; PackageReference: PVSP0008KA-A; Publisher: Altium Limited; PackageDescription: 8-Pin Plastic Thin Shrink Small Outline Package 0.5 mm Pitch; Code_JEITA: P-VSSOP8-2.3x2-0.50; ComponentLink1Description: Manufacturer Link; ComponentLink1URL: http://sg.renesas.com/fmwk.jsp?cnt=unilogic_lva_lvta_root.jsp&fp=/products/standard_ic/general_purpose_logic/uni_logic/unilogic_lva_lvta/; ComponentLink2Description: Datasheet; ComponentLink2URL: http://documentation.renesas.com/eng/products/logic/rej03d0150_hd74lv2gt157a.pdf; ComponentLink3Description: Packaging Specification; ComponentLink3URL: http://sg.renesas.com/media/products/common_info/package/pdf/ic/code/pvsp0008ka_a.pdf
footprint PVSP0008KA-A_N (TSSOP, 8-Leads, Body 2x2.3mm, Pitch 0.5mm, IPC Medium Density)
footprint PVSP0008KA-A_L (TSSOP, 8-Leads, Body 2x2.3mm, Pitch 0.5mm, IPC High Density)
footprint PVSP0008KA-A_M (TSSOP, 8-Leads, Body 2x2.3mm, Pitch 0.5mm, IPC Low Density)
pins: 1 A (in), 2 B (in), 3 ~{Y} (out), 4 GND (power), 5 Y (out), 6 SEL (in), 7 ~{STB} (in), 8 VCC (power)

## HD74LV2GT240AUS
designator U?
Dual Bus Buffer Inverted with 3-State Output; Published: 10-Feb-2010; DatasheetVersion: Rev.2.00, Oct-2003; PackageVersion: Sep-2005; PackageReference: PVSP0008KA-A; Publisher: Altium Limited; PackageDescription: 8-Pin Plastic Thin Shrink Small Outline Package 0.5 mm Pitch; Code_JEITA: P-VSSOP8-2.3x2-0.50; ComponentLink1Description: Manufacturer Link; ComponentLink1URL: http://sg.renesas.com/fmwk.jsp?cnt=unilogic_lva_lvta_root.jsp&fp=/products/standard_ic/general_purpose_logic/uni_logic/unilogic_lva_lvta/; ComponentLink2Description: Datasheet; ComponentLink2URL: http://documentation.renesas.com/eng/products/logic/rej03d0151_hd74lv2gt240a.pdf; ComponentLink3Description: Packaging Specification; ComponentLink3URL: http://sg.renesas.com/media/products/common_info/package/pdf/ic/code/pvsp0008ka_a.pdf
footprint PVSP0008KA-A_N (TSSOP, 8-Leads, Body 2x2.3mm, Pitch 0.5mm, IPC Medium Density)
footprint PVSP0008KA-A_L (TSSOP, 8-Leads, Body 2x2.3mm, Pitch 0.5mm, IPC High Density)
footprint PVSP0008KA-A_M (TSSOP, 8-Leads, Body 2x2.3mm, Pitch 0.5mm, IPC Low Density)
pins on every part: 4 GND (power) hidden, 8 VCC (power) hidden
part A pins: 1 ~{OE}1 (in), 2 A1 (in), 6 ~{Y}1 (hiz)
part B pins: 3 ~{Y}2 (hiz), 5 A2 (in), 7 ~{OE}2 (in)

## HD74LV2GT241AUS
designator U?
Dual Bus Buffer Non-Inverted with 3-State Output and CMOS Logic Level Shifter; Published: 10-Feb-2010; DatasheetVersion: Rev.2.00, Oct-2003; PackageVersion: Sep-2005; PackageReference: PVSP0008KA-A; Publisher: Altium Limited; PackageDescription: 8-Pin Plastic Thin Shrink Small Outline Package 0.5 mm Pitch; Code_JEITA: P-VSSOP8-2.3x2-0.50; ComponentLink1Description: Manufacturer Link; ComponentLink1URL: http://sg.renesas.com/fmwk.jsp?cnt=unilogic_lva_lvta_root.jsp&fp=/products/standard_ic/general_purpose_logic/uni_logic/unilogic_lva_lvta/; ComponentLink2Description: Datasheet; ComponentLink2URL: http://documentation.renesas.com/eng/products/logic/rej03d0152_hd74lv2gt241a.pdf; ComponentLink3Description: Packaging Specification; ComponentLink3URL: http://sg.renesas.com/media/products/common_info/package/pdf/ic/code/pvsp0008ka_a.pdf
footprint PVSP0008KA-A_N (TSSOP, 8-Leads, Body 2x2.3mm, Pitch 0.5mm, IPC Medium Density)
footprint PVSP0008KA-A_L (TSSOP, 8-Leads, Body 2x2.3mm, Pitch 0.5mm, IPC High Density)
footprint PVSP0008KA-A_M (TSSOP, 8-Leads, Body 2x2.3mm, Pitch 0.5mm, IPC Low Density)
pins on every part: 4 GND (power) hidden, 8 VCC (power) hidden
part A pins: 1 ~{OE}1 (in), 2 A1 (in), 6 Y1 (hiz)
part B pins: 3 Y2 (hiz), 5 A2 (in), 7 ~{OE}2 (in)

## HD74LV2GT245AUS
designator U?
Dual Bus Transceivers with 3-State Outputs and CMOS Logic Level Shifter; Published: 10-Feb-2010; DatasheetVersion: Rev.2.00, Oct-2003; PackageVersion: Sep-2005; PackageReference: PVSP0008KA-A; Publisher: Altium Limited; PackageDescription: 8-Pin Plastic Thin Shrink Small Outline Package 0.5 mm Pitch; Code_JEITA: P-VSSOP8-2.3x2-0.50; ComponentLink1Description: Manufacturer Link; ComponentLink1URL: http://sg.renesas.com/fmwk.jsp?cnt=unilogic_lva_lvta_root.jsp&fp=/products/standard_ic/general_purpose_logic/uni_logic/unilogic_lva_lvta/; ComponentLink2Description: Datasheet; ComponentLink2URL: http://documentation.renesas.com/eng/products/logic/rej03d0153_hd74lv2gt245a.pdf; ComponentLink3Description: Packaging Specification; ComponentLink3URL: http://sg.renesas.com/media/products/common_info/package/pdf/ic/code/pvsp0008ka_a.pdf
footprint PVSP0008KA-A_N (TSSOP, 8-Leads, Body 2x2.3mm, Pitch 0.5mm, IPC Medium Density)
footprint PVSP0008KA-A_L (TSSOP, 8-Leads, Body 2x2.3mm, Pitch 0.5mm, IPC High Density)
footprint PVSP0008KA-A_M (TSSOP, 8-Leads, Body 2x2.3mm, Pitch 0.5mm, IPC Low Density)
pins: 1 DIR (in), 2 A1 (io), 3 A2 (io), 4 GND (power), 5 B2 (io), 6 B1 (io), 7 ~{OE} (in), 8 VCC (power)

## HD74LV2GU04AUS
designator U?
Triple Unbuffered Inverters; Published: 10-Feb-2010; DatasheetVersion: Rev.3.00, Sep-2003; PackageVersion: Sep-2005; PackageReference: PVSP0008KA-A; Publisher: Altium Limited; PackageDescription: 8-Pin Plastic Thin Shrink Small Outline Package 0.5 mm Pitch; Code_JEITA: P-VSSOP8-2.3x2-0.50; ComponentLink1Description: Manufacturer Link; ComponentLink1URL: http://sg.renesas.com/fmwk.jsp?cnt=unilogic_lva_lvta_root.jsp&fp=/products/standard_ic/general_purpose_logic/uni_logic/unilogic_lva_lvta/; ComponentLink2Description: Datasheet; ComponentLink2URL: http://documentation.renesas.com/eng/products/logic/rej03d0089_hd74lv2gu04a.pdf; ComponentLink3Description: Packaging Specification; ComponentLink3URL: http://sg.renesas.com/media/products/common_info/package/pdf/ic/code/pvsp0008ka_a.pdf
footprint PVSP0008KA-A_N (TSSOP, 8-Leads, Body 2x2.3mm, Pitch 0.5mm, IPC Medium Density)
footprint PVSP0008KA-A_L (TSSOP, 8-Leads, Body 2x2.3mm, Pitch 0.5mm, IPC High Density)
footprint PVSP0008KA-A_M (TSSOP, 8-Leads, Body 2x2.3mm, Pitch 0.5mm, IPC Low Density)
pins on every part: 4 GND (power) hidden, 8 VCC (power) hidden
part A pins: 1 1A (in), 7 1~{Y} (out)
part B pins: 3 2A (in), 5 2~{Y} (out)
part C pins: 2 3~{Y} (out), 6 3A (in)

## HD74LV04AFP
designator U?
Hex Inverters; Published: 10-Feb-2010; DatasheetVersion: Rev.3.00, May-2004; PackageVersion: Sep-2005; PackageReference: PRSP0014DF-B; Publisher: Altium Limited; PackageDescription: 14-Pin Plastic Small Outline Package, 10.06 x 5.5 mm Body, 1.27 mm Pitch; Code_JEITA: P-SOP14-5.5x10.06-1.27; ComponentLink1Description: Manufacturer Link; ComponentLink1URL: http://sg.renesas.com/fmwk.jsp?cnt=hd74lv_a_root.jsp&fp=/products/standard_ic/general_purpose_logic/low_voltage_logic/hd74lv_a/; ComponentLink2Description: Datasheet; ComponentLink2URL: http://documentation.renesas.com/eng/products/logic/rej03d0227_hd74lv04a.pdf; ComponentLink3Description: Packaging Specification; ComponentLink3URL: http://sg.renesas.com/media/products/common_info/package/pdf/ic/code/prsp0014df_b.pdf
footprint PRSP0014DF-B_N (SOP, 14-Leads, Body 10.06x5.5mm, Pitch 1.27mm, IPC Medium Density)
footprint PRSP0014DF-B_L (SOP, 14-Leads, Body 10.06x5.5mm, Pitch 1.27mm, IPC High Density)
footprint PRSP0014DF-B_M (SOP, 14-Leads, Body 10.06x5.5mm, Pitch 1.27mm, IPC Low Density)
pins on every part: 7 GND (power) hidden, 14 VCC (power) hidden
part A pins: 1 1A (in), 2 1~{Y} (out)
part B pins: 3 2A (in), 4 2~{Y} (out)
part C pins: 5 3A (in), 6 3~{Y} (out)
part D pins: 8 4~{Y} (out), 9 4A (in)
part E pins: 10 5~{Y} (out), 11 5A (in)
part F pins: 12 6~{Y} (out), 13 6A (in)

## HD74LV04AT
designator U?
Hex Inverters; Published: 10-Feb-2010; DatasheetVersion: Rev.3.00, May-2004; PackageVersion: Sep-2005; PackageReference: PTSP0014JA-B; Publisher: Altium Limited; PackageDescription: 14-Pin Plastic Thin Small Outline Package 0.65 mm Pitch; Code_JEITA: P-TSSOP14-4.4x5-0.65; ComponentLink1Description: Manufacturer Link; ComponentLink1URL: http://sg.renesas.com/fmwk.jsp?cnt=hd74lv_a_root.jsp&fp=/products/standard_ic/general_purpose_logic/low_voltage_logic/hd74lv_a/; ComponentLink2Description: Datasheet; ComponentLink2URL: http://documentation.renesas.com/eng/products/logic/rej03d0227_hd74lv04a.pdf; ComponentLink3Description: Packaging Specification; ComponentLink3URL: http://sg.renesas.com/media/products/common_info/package/pdf/ic/code/ptsp0014ja_b.pdf
footprint PTSP0014JA-B_N (TSOP, 14-Leads, Body 5x4.4mm, Pitch 0.65mm, IPC Medium Density)
footprint PTSP0014JA-B_L (TSOP, 14-Leads, Body 5x4.4mm, Pitch 0.65mm, IPC High Density)
footprint PTSP0014JA-B_M (TSOP, 14-Leads, Body 5x4.4mm, Pitch 0.65mm, IPC Low Density)
pins on every part: 7 GND (power) hidden, 14 VCC (power) hidden
part A pins: 1 1A (in), 2 1~{Y} (out)
part B pins: 3 2A (in), 4 2~{Y} (out)
part C pins: 5 3A (in), 6 3~{Y} (out)
part D pins: 8 4~{Y} (out), 9 4A (in)
part E pins: 10 5~{Y} (out), 11 5A (in)
part F pins: 12 6~{Y} (out), 13 6A (in)

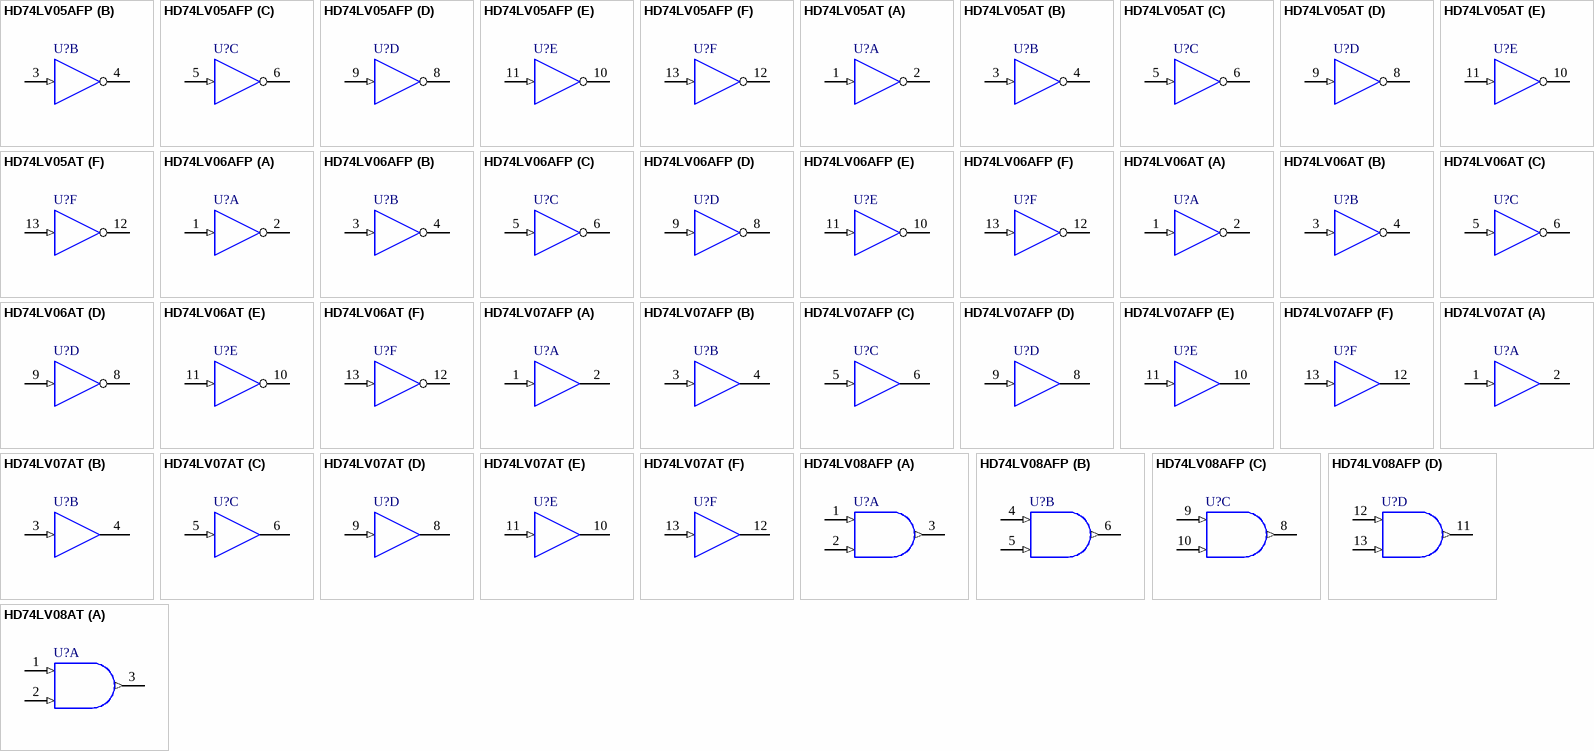
[diagram p42: symbols HD74LV05AFP to HD74LV08AT]

## HD74LV05AFP
designator U?
Hex Inverters with Open Drain Outputs; Published: 10-Feb-2010; DatasheetVersion: Rev.7.00, Dec-2005; PackageVersion: Sep-2005; PackageReference: PRSP0014DF-B; Publisher: Altium Limited; PackageDescription: 14-Pin Plastic Small Outline Package, 10.06 x 5.5 mm Body, 1.27 mm Pitch; Code_JEITA: P-SOP14-5.5x10.06-1.27; ComponentLink1Description: Manufacturer Link; ComponentLink1URL: http://sg.renesas.com/fmwk.jsp?cnt=hd74lv_a_root.jsp&fp=/products/standard_ic/general_purpose_logic/low_voltage_logic/hd74lv_a/; ComponentLink2Description: Datasheet; ComponentLink2URL: http://documentation.renesas.com/eng/products/logic/rej03d0229_hd74lv05ads.pdf; ComponentLink3Description: Packaging Specification; ComponentLink3URL: http://sg.renesas.com/media/products/common_info/package/pdf/ic/code/prsp0014df_b.pdf
footprint PRSP0014DF-B_N (SOP, 14-Leads, Body 10.06x5.5mm, Pitch 1.27mm, IPC Medium Density)
footprint PRSP0014DF-B_L (SOP, 14-Leads, Body 10.06x5.5mm, Pitch 1.27mm, IPC High Density)
footprint PRSP0014DF-B_M (SOP, 14-Leads, Body 10.06x5.5mm, Pitch 1.27mm, IPC Low Density)
pins on every part: 7 GND (power) hidden, 14 VCC (power) hidden
part A pins: 1 1A (in), 2 1~{Y} (oc)
part B pins: 3 2A (in), 4 2~{Y} (oc)
part C pins: 5 3A (in), 6 3~{Y} (oc)
part D pins: 8 4~{Y} (oc), 9 4A (in)
part E pins: 10 5~{Y} (oc), 11 5A (in)
part F pins: 12 6~{Y} (oc), 13 6A (in)

## HD74LV05AT
designator U?
Hex Inverters with Open Drain Outputs; Published: 10-Feb-2010; DatasheetVersion: Rev.7.00, Dec-2005; PackageVersion: Sep-2005; PackageReference: PTSP0014JA-B; Publisher: Altium Limited; PackageDescription: 14-Pin Plastic Thin Small Outline Package 0.65 mm Pitch; Code_JEITA: P-TSSOP14-4.4x5-0.65; ComponentLink1Description: Manufacturer Link; ComponentLink1URL: http://sg.renesas.com/fmwk.jsp?cnt=hd74lv_a_root.jsp&fp=/products/standard_ic/general_purpose_logic/low_voltage_logic/hd74lv_a/; ComponentLink2Description: Datasheet; ComponentLink2URL: http://documentation.renesas.com/eng/products/logic/rej03d0229_hd74lv05ads.pdf; ComponentLink3Description: Packaging Specification; ComponentLink3URL: http://sg.renesas.com/media/products/common_info/package/pdf/ic/code/ptsp0014ja_b.pdf
footprint PTSP0014JA-B_N (TSOP, 14-Leads, Body 5x4.4mm, Pitch 0.65mm, IPC Medium Density)
footprint PTSP0014JA-B_L (TSOP, 14-Leads, Body 5x4.4mm, Pitch 0.65mm, IPC High Density)
footprint PTSP0014JA-B_M (TSOP, 14-Leads, Body 5x4.4mm, Pitch 0.65mm, IPC Low Density)
pins on every part: 7 GND (power) hidden, 14 VCC (power) hidden
part A pins: 1 1A (in), 2 1~{Y} (oc)
part B pins: 3 2A (in), 4 2~{Y} (oc)
part C pins: 5 3A (in), 6 3~{Y} (oc)
part D pins: 8 4~{Y} (oc), 9 4A (in)
part E pins: 10 5~{Y} (oc), 11 5A (in)
part F pins: 12 6~{Y} (oc), 13 6A (in)

## HD74LV06AFP
designator U?
Hex Inverter Buffers / Drivers with Open Drain Outputs; Published: 10-Feb-2010; DatasheetVersion: Rev.6.00, Dec-2005; PackageVersion: Sep-2005; PackageReference: PRSP0014DF-B; Publisher: Altium Limited; PackageDescription: 14-Pin Plastic Small Outline Package, 10.06 x 5.5 mm Body, 1.27 mm Pitch; Code_JEITA: P-SOP14-5.5x10.06-1.27; ComponentLink1Description: Manufacturer Link; ComponentLink1URL: http://sg.renesas.com/fmwk.jsp?cnt=hd74lv_a_root.jsp&fp=/products/standard_ic/general_purpose_logic/low_voltage_logic/hd74lv_a/; ComponentLink2Description: Datasheet; ComponentLink2URL: http://documentation.renesas.com/eng/products/logic/rej03d0230_hd74lv06a.pdf; ComponentLink3Description: Packaging Specification; ComponentLink3URL: http://sg.renesas.com/media/products/common_info/package/pdf/ic/code/prsp0014df_b.pdf
footprint PRSP0014DF-B_N (SOP, 14-Leads, Body 10.06x5.5mm, Pitch 1.27mm, IPC Medium Density)
footprint PRSP0014DF-B_L (SOP, 14-Leads, Body 10.06x5.5mm, Pitch 1.27mm, IPC High Density)
footprint PRSP0014DF-B_M (SOP, 14-Leads, Body 10.06x5.5mm, Pitch 1.27mm, IPC Low Density)
pins on every part: 7 GND (power) hidden, 14 VCC (power) hidden
part A pins: 1 1A (in), 2 1~{Y} (oc)
part B pins: 3 2A (in), 4 2~{Y} (oc)
part C pins: 5 3A (in), 6 3~{Y} (oc)
part D pins: 8 4~{Y} (oc), 9 4A (in)
part E pins: 10 5~{Y} (oc), 11 5A (in)
part F pins: 12 6~{Y} (oc), 13 6A (in)

## HD74LV06AT
designator U?
Hex Inverter Buffers / Drivers with Open Drain Outputs; Published: 10-Feb-2010; DatasheetVersion: Rev.6.00, Dec-2005; PackageVersion: Sep-2005; PackageReference: PTSP0014JA-B; Publisher: Altium Limited; PackageDescription: 14-Pin Plastic Thin Small Outline Package 0.65 mm Pitch; Code_JEITA: P-TSSOP14-4.4x5-0.65; ComponentLink1Description: Manufacturer Link; ComponentLink1URL: http://sg.renesas.com/fmwk.jsp?cnt=hd74lv_a_root.jsp&fp=/products/standard_ic/general_purpose_logic/low_voltage_logic/hd74lv_a/; ComponentLink2Description: Datasheet; ComponentLink2URL: http://documentation.renesas.com/eng/products/logic/rej03d0230_hd74lv06a.pdf; ComponentLink3Description: Packaging Specification; ComponentLink3URL: http://sg.renesas.com/media/products/common_info/package/pdf/ic/code/ptsp0014ja_b.pdf
footprint PTSP0014JA-B_N (TSOP, 14-Leads, Body 5x4.4mm, Pitch 0.65mm, IPC Medium Density)
footprint PTSP0014JA-B_L (TSOP, 14-Leads, Body 5x4.4mm, Pitch 0.65mm, IPC High Density)
footprint PTSP0014JA-B_M (TSOP, 14-Leads, Body 5x4.4mm, Pitch 0.65mm, IPC Low Density)
pins on every part: 7 GND (power) hidden, 14 VCC (power) hidden
part A pins: 1 1A (in), 2 1~{Y} (oc)
part B pins: 3 2A (in), 4 2~{Y} (oc)
part C pins: 5 3A (in), 6 3~{Y} (oc)
part D pins: 8 4~{Y} (oc), 9 4A (in)
part E pins: 10 5~{Y} (oc), 11 5A (in)
part F pins: 12 6~{Y} (oc), 13 6A (in)

## HD74LV07AFP
designator U?
Hex Buffers / Drivers with Open Drain Outputs; Published: 10-Feb-2010; DatasheetVersion: Rev.6.00, Dec-2005; PackageVersion: Sep-2005; PackageReference: PRSP0014DF-B; Publisher: Altium Limited; PackageDescription: 14-Pin Plastic Small Outline Package, 10.06 x 5.5 mm Body, 1.27 mm Pitch; Code_JEITA: P-SOP14-5.5x10.06-1.27; ComponentLink1Description: Manufacturer Link; ComponentLink1URL: http://sg.renesas.com/fmwk.jsp?cnt=hd74lv_a_root.jsp&fp=/products/standard_ic/general_purpose_logic/low_voltage_logic/hd74lv_a/; ComponentLink2Description: Datasheet; ComponentLink2URL: http://documentation.renesas.com/eng/products/logic/rej03d0231_hd74lv07a.pdf; ComponentLink3Description: Packaging Specification; ComponentLink3URL: http://sg.renesas.com/media/products/common_info/package/pdf/ic/code/prsp0014df_b.pdf
footprint PRSP0014DF-B_N (SOP, 14-Leads, Body 10.06x5.5mm, Pitch 1.27mm, IPC Medium Density)
footprint PRSP0014DF-B_L (SOP, 14-Leads, Body 10.06x5.5mm, Pitch 1.27mm, IPC High Density)
footprint PRSP0014DF-B_M (SOP, 14-Leads, Body 10.06x5.5mm, Pitch 1.27mm, IPC Low Density)
pins on every part: 7 GND (power) hidden, 14 VCC (power) hidden
part A pins: 1 1A (in), 2 1Y (oc)
part B pins: 3 2A (in), 4 2Y (oc)
part C pins: 5 3A (in), 6 3Y (oc)
part D pins: 8 4Y (oc), 9 4A (in)
part E pins: 10 5Y (oc), 11 5A (in)
part F pins: 12 6Y (oc), 13 6A (in)

## HD74LV07AT
designator U?
Hex Buffers / Drivers with Open Drain Outputs; Published: 10-Feb-2010; DatasheetVersion: Rev.6.00, Dec-2005; PackageVersion: Sep-2005; PackageReference: PTSP0014JA-B; Publisher: Altium Limited; PackageDescription: 14-Pin Plastic Thin Small Outline Package 0.65 mm Pitch; Code_JEITA: P-TSSOP14-4.4x5-0.65; ComponentLink1Description: Manufacturer Link; ComponentLink1URL: http://sg.renesas.com/fmwk.jsp?cnt=hd74lv_a_root.jsp&fp=/products/standard_ic/general_purpose_logic/low_voltage_logic/hd74lv_a/; ComponentLink2Description: Datasheet; ComponentLink2URL: http://documentation.renesas.com/eng/products/logic/rej03d0231_hd74lv07a.pdf; ComponentLink3Description: Packaging Specification; ComponentLink3URL: http://sg.renesas.com/media/products/common_info/package/pdf/ic/code/ptsp0014ja_b.pdf
footprint PTSP0014JA-B_N (TSOP, 14-Leads, Body 5x4.4mm, Pitch 0.65mm, IPC Medium Density)
footprint PTSP0014JA-B_L (TSOP, 14-Leads, Body 5x4.4mm, Pitch 0.65mm, IPC High Density)
footprint PTSP0014JA-B_M (TSOP, 14-Leads, Body 5x4.4mm, Pitch 0.65mm, IPC Low Density)
pins on every part: 7 GND (power) hidden, 14 VCC (power) hidden
part A pins: 1 1A (in), 2 1Y (oc)
part B pins: 3 2A (in), 4 2Y (oc)
part C pins: 5 3A (in), 6 3Y (oc)
part D pins: 8 4Y (oc), 9 4A (in)
part E pins: 10 5Y (oc), 11 5A (in)
part F pins: 12 6Y (oc), 13 6A (in)